# Altium schematic symbol library BV100011_UniversalSlave.SCHLIB: 122 symbols (part 2 of 2)
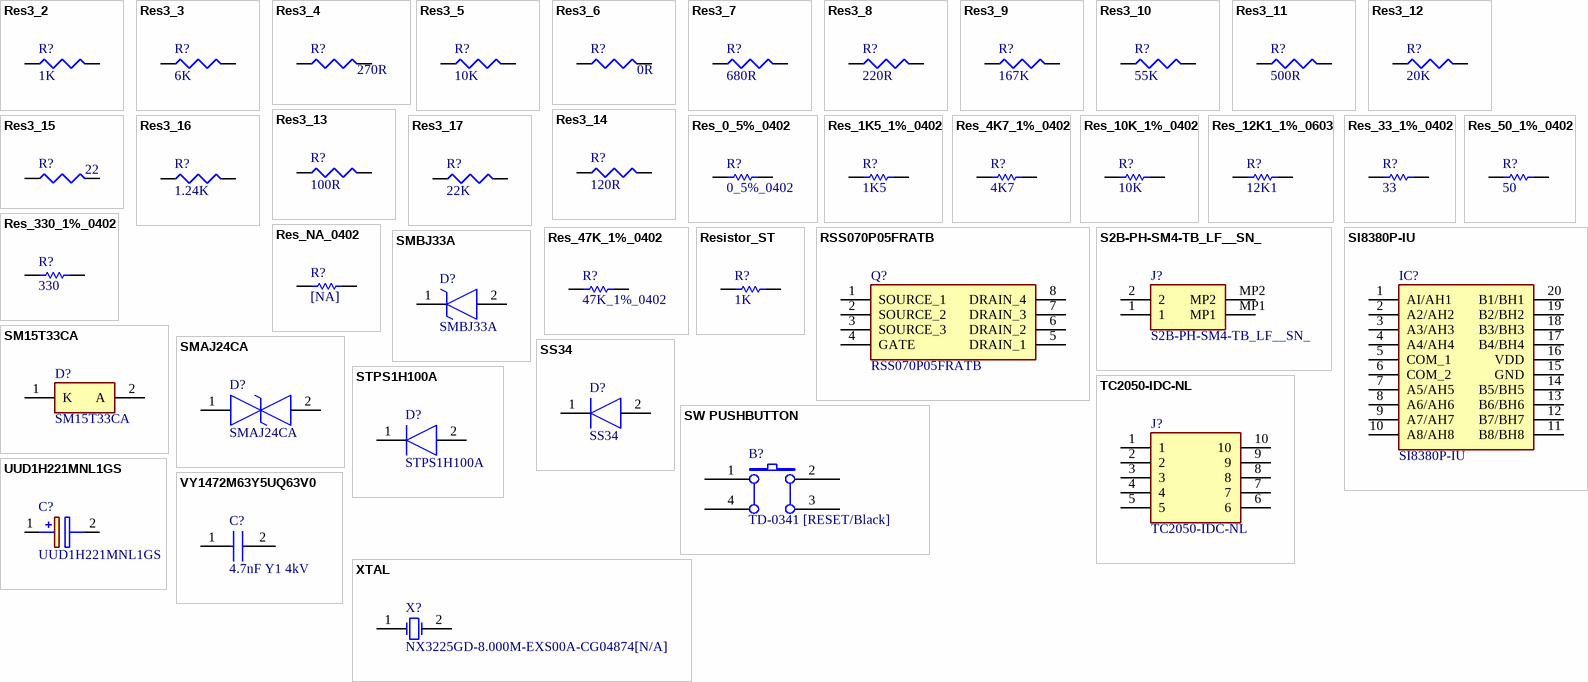
[diagram p4: symbols Res3_2 to XTAL]

## Res_NA_0402
designator R?, comment [NA]
Resistor,[NA],0402; Fitted: NO; Value: [NA]; ECCN_US/EU: n/a
footprint 0402R
pins: 1, 2

## Resistor_ST
designator R?, comment 1K
Resistor 0402 / 0603 / 0805; Value: 10K
footprint 0402R
footprint 0603R
footprint 0805R (Footprint not found)
footprint 0603R-GS
pins: 1, 2

## RSS070P05FRATB
designator Q?
MOSFET (P-Channel); Manufacturer_Name: ROHM Semiconductor; Datasheet Link: https://d1d2qsbl8m0m72.cloudfront.net/en/products/databook/datasheet/discrete/transistor/mosfet/rss070p05fra-e.pdf; Height: 1.75mm; Manufacturer_Part_Number: RSS070P05FRATB; Mouser Part Number: 755-RSS070P05FRATB; Mouser Price/Stock: https://www.mouser.com/Search/Refine.aspx?Keyword=755-RSS070P05FRATB
footprint SOIC127P600X175-8N
pins: 1 SOURCE_1, 2 SOURCE_2, 3 SOURCE_3, 4 GATE, 5 DRAIN_1, 6 DRAIN_2, 7 DRAIN_3, 8 DRAIN_4

## S2B-PH-SM4-TB_LF__SN_
designator J?
Connector; Manufacturer_Name: JST Sales America; Manufacturer_Part_Number: S2B-PH-SM4-TB(LF)(SN); Datasheet Link: https://www.jst-mfg.com/product/pdf/eng/ePH.pdf; Height: 6.6mm
footprint S2BPHSM4TBLFSN
pins: 1, 2, MP1, MP2

## SI8380P-IU
designator IC?
Integrated Circuit; Manufacturer_Name: Silicon Labs; Datasheet Link: https://componentsearchengine.com/Datasheets/1/SI8380P-IU.pdf; Height: 1.75mm; Mouser Part Number: 634-SI8380P-IU; Mouser Price/Stock: https://www.mouser.com/Search/Refine.aspx?Keyword=634-SI8380P-IU; Manufacturer_Part_Number: SI8380P-IU
footprint SOP64P600X175-20N
pins: 1 AI/AH1, 2 A2/AH2, 3 A3/AH3, 4 A4/AH4, 5 COM_1, 6 COM_2, 7 A5/AH5, 8 A6/AH6, 9 A7/AH7, 10 A8/AH8, 11 B8/BH8, 12 B7/BH7, 13 B6/BH6, 14 B5/BH5, 15 GND, 16 VDD, 17 B4/BH4, 18 B3/BH3, 19 B2/BH2, 20 B1/BH1

## SM15T33CA
designator D?
Diode; Manufacturer_Name: STMicroelectronics; Allied_Number: 70390412; Datasheet Link: http://www.st.com/web/en/resource/technical/document/datasheet/CD00000724.pdf; Height: 2.65mm; Manufacturer_Part_Number: SM15T33CA; Mouser Part Number: 511-SM15T33CA; Mouser Price/Stock: https://www.mouser.com/Search/Refine.aspx?Keyword=511-SM15T33CA; RS Part Number: 9196428; RS Price/Stock: https://uk.rs-online.com/web/p/products/9196428; Allied Price/Stock: http://www.alliedelec.com/stmicroelectronics-sm15t33ca/70390412/
footprint DIONM8059X265N
pins: 1 K, 2 A

## SMAJ24CA
designator D?
TVS Diode (Bi-directional); Manufacturer_Name: LITTELFUSE; Datasheet Link: http://www.littelfuse.com/~/media/electronics/datasheets/tvs_diodes/littelfuse_tvs_diode_smaj_datasheet.pdf.pdf; Height: 2.29mm; Manufacturer_Part_Number: SMAJ24CA; Mouser Part Number: 576-SMAJ24CA; Mouser Price/Stock: https://www.mouser.com/Search/Refine.aspx?Keyword=576-SMAJ24CA; RS Part Number: 1719613P; RS Price/Stock: http://uk.rs-online.com/web/p/products/1719613P
footprint DIONM5026X229N
pins: 1 K, 2 A

## SMBJ33A
designator D?
TVS Diode (Uni-directional); Manufacturer_Name: ON Semiconductor; Datasheet Link: http://www.onsemi.com/pub/Collateral/SMBJ9V0CA-D.pdf; Height: 2.65mm; Manufacturer_Part_Number: SMBJ33A; Mouser Part Number: 512-SMBJ33A; Mouser Price/Stock: https://www.mouser.com/Search/Refine.aspx?Keyword=512-SMBJ33A; RS Part Number: 8022320P; RS Price/Stock: http://uk.rs-online.com/web/p/products/8022320P
footprint DIOM5336X265N
pins: 1 K, 2 A

## SS34
designator D?
Diode; Manufacturer_Name: HY Electronic Corp; Datasheet Link: http://www.hygroup.com.tw/upfiles/ADUpload/all_/SS32%20thru%20SS310(242-243).pdf; Height: 2.62mm; Manufacturer_Part_Number: SS34
footprint DIOM6959X262N
pins: 1 K, 2 A

## STPS1H100A
designator D?
Diode; Manufacturer_Name: STMicroelectronics; Allied_Number: 70014065; Datasheet Link: http://www.st.com/web/en/resource/technical/document/datasheet/CD00001304.pdf; Height: 2.65mm; Manufacturer_Part_Number: STPS1H100A; Mouser Part Number: 511-STPS1H100A; Mouser Price/Stock: https://www.mouser.com/Search/Refine.aspx?Keyword=511-STPS1H100A; RS Part Number: 0249892P; RS Price/Stock: http://uk.rs-online.com/web/p/products/0249892P; Allied Price/Stock: http://www.alliedelec.com/stmicroelectronics-stps1h100a/70014065/
footprint DIOM5126X265N
pins: 1 K, 2 A

## SW PUSHBUTTON
designator B?, comment TD-0341 [RESET/Black]
SE PUSHBUTTON
footprint PB (Footprint not found)
footprint PB10
footprint BP1CMS
footprint PB-6X6mm-Black (Footprint not found)
pins: 1 A0, 2 B0, 3 B1, 4 A1

## TC2050-IDC-NL
designator J?
Plug-Of-Nailsâ„¢ Adapter Cable; MF: Tag-Connect LLC; MP: TC2050-IDC-NL; Availability: Unavailable; Package: None; Value: *; Price: None; SnapEDA_Link: https://www.snapeda.com/parts/TC2050-IDC-NL/Tag-Connect%20LLC/view-part/134534/?ref=snap
footprint CON_TAG-C_TC2050-IDC-NL
pins: 1, 2, 3, 4, 5, 6, 7, 8, 9, 10

## UUD1H221MNL1GS
designator C?
Capacitor Polarised; Manufacturer_Name: Nichicon; Datasheet Link: https://componentsearchengine.com/Datasheets/2/UUD1H221MNL1GS.pdf; Height: 10.5mm; Manufacturer_Part_Number: UUD1H221MNL1GS; Arrow Part Number: UUD1H221MNL1GS; Arrow Price/Stock: https://www.arrow.com/en/products/uud1h221mnl1gs/nichicon; Mouser Part Number: 647-UUD1H221MNL; Mouser Price/Stock: https://www.mouser.co.uk/ProductDetail/Nichicon/UUD1H221MNL1GS?qs=vtpzqDgAobnaECklx3mHVg%3D%3D
footprint CAPAE1030X1050N
pins: 1 +, 2 -

## VY1472M63Y5UQ63V0
designator C?, comment 4.7nF Y1 4kV
Capacitor; Manufacturer_Name: VISHAY BC COMPONENTS; Manufacturer_Part_Number: VY1472M63Y5UQ63V0; Allied_Number: 70122998; Datasheet Link: http://www.vishay.com/docs/28537/vy1series.pdf; Height: 19mm; Allied Price/Stock: https://www.alliedelec.com/bccomponents-vishay-vy1472m63y5uq63v0/70122998/
footprint VY1472M63Y5UQ63V0
pins: 1, 2

## XTAL
designator X?, comment NX3225GD-8.000M-EXS00A-CG04874[N/A]
Crystal Oscillator; Published: 8-Jun-2000; LatestRevisionDate: 17-Jul-2002; LatestRevisionNote: Re-released for DXP Platform.; PackageReference: R38; Publisher: Altium Limited
footprint R38
footprint XTAL1
footprint HOSC-L500HW320H105-4_V (Quartz Crystal, Body 5.0 x 3.2 mm, Height 1.05mm)
footprint NDK_NX3225GD (NDK 8M Hz  3.2 x 2.5 mm)
footprint XTAL_3225 (Footprint not found)
footprint OSC_2SM_3R2x2R5 (Footprint not found)
pins: 1 OSC1, 2 OSC2
2 alternate drawings of the same symbol

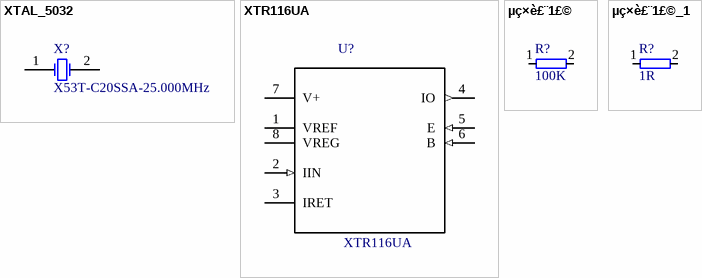
[diagram p3: symbols XTAL_5032 to µç×è£¨1£©_1]

## XTAL_5032
designator X?, comment X53T-C20SSA-25.000MHz
Crystal Oscillator; Published: 8-Jun-2000; LatestRevisionDate: 17-Jul-2002; LatestRevisionNote: Re-released for DXP Platform.; PackageReference: R38; Publisher: Altium Limited
footprint R38
footprint XTAL1
footprint HOSC-L500HW320H105-4_V (Quartz Crystal, Body 5.0 x 3.2 mm, Height 1.05mm)
footprint NDK_NX3225GD (NDK 8M Hz  3.2 x 2.5 mm)
footprint XTAL_5032 (Footprint not found)
footprint XTAL_2SM_5R0X3R2 (Footprint not found)
pins: 1 OSC1, 2 OSC2
2 alternate drawings of the same symbol

## XTR116UA
designator U?
Sensors, Sensor Conditioning, 4-20mA Transmitters 4-20mA Current Loop Transmitters; MF: Texas Instruments; SnapEDA_Link: https://www.snapeda.com/parts/XTR116UA/Texas%20Instruments/view-part/?ref=snap; MP: XTR116UA; Availability: Unavailable; Price: None; Package: SOIC-8 Texas Instruments; Value: *
footprint *SOIC127P600X175-8N
pins: 1 VREF, 2 IIN (in), 3 IRET, 4 IO (out), 5 E (in), 6 B (in), 7 V+ (power), 8 VREG

## µç×è£¨1£©
designator R?, comment 100K
Resistor
footprint 0603A
footprint 0805
footprint R0603
pins: 1, 2

## µç×è£¨1£©_1
designator R?, comment 1R
Resistor
footprint 0603A
footprint 0805
footprint R0603
footprint R0805
pins: 1, 2